# EAGLE library part TLV2462CP (library o2sensor_misc_parts)
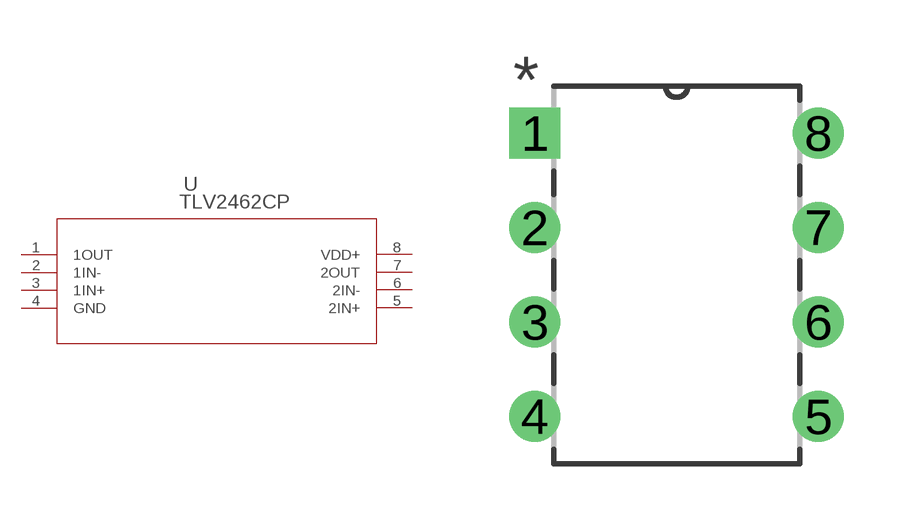
[diagram p2: symbol with the pads of P8; footprint P8]

Designator prefix U

## TLV2462CP (DATASHEET_URL: http://www.ti.com/lit/gpn/TLV2462; DESCRIPTION: Dual Low-Power, Rail-to-Rail Input/Output Operational Amplifier; FAMILY_NAME: WIDE BANDWIDTH; GENERIC_PART_NUMBER: TLV2462; INDUSTRY_STD_PKG_TYPE: PDIP; MANUFACTURER: Texas Instruments; MANUFACTURER_PART_NUMBER: TLV2462CP; PACKAGE_DESIGNATOR: P; PIN_COUNT: 8; VENDOR: Texas Instruments)  [P8]
1  1OUT  out
2  1IN-  in
3  1IN+  in
4  GND  pwr
5  2IN+  in
6  2IN-  in
7  2OUT  out
8  VDD+  pwr

## Footprint P8 (pad centres in mm)
drill 0.864 pad 1.372 square: 1 -7.62,7.62
drill 0.864 pad 1.372: 2 -7.62,5.08; 3 -7.62,2.54; 4 -7.62,0; 5 0,0; 6 0,2.54; 7 0,5.08; 8 0,7.62